# EAGLE library part DRV8836 (library Wisp5_Harvester_Motor-driver_V2)
Dual low voltage H-Bridge IC
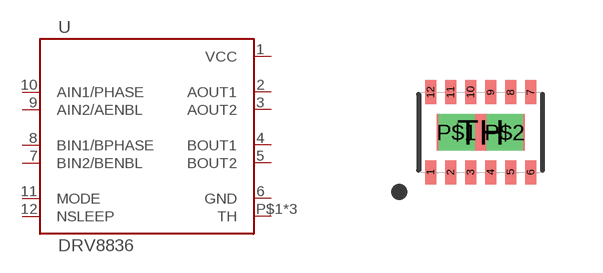
[diagram p3: symbol with the pads of 12WSON; footprint 12WSON]

Designator prefix U

## DRV8836  [12WSON]
1  VCC
2  AOUT1
3  AOUT2
4  BOUT1
5  BOUT2
6  GND
7  BIN2/BENBL
8  BIN1/BPHASE
9  AIN2/AENBL
10  AIN1/PHASE
11  MODE
12  NSLEEP
P$1  TH
P$2  TH
TH  TH

## Footprint 12WSON (pad centres in mm)
smd 0.28 x 0.6: 1 -1.25,-1; 2 -0.75,-1; 3 -0.25,-1; 4 0.25,-1; 5 0.75,-1; 6 1.25,-1; 7 1.25,1; 8 0.75,1; 9 0.25,1; 10 -0.25,1; 11 -0.75,1; 12 -1.25,1
drill 0.35 pad 0.9 square: P$1 -0.6,0; P$2 0.6,0
smd 2.2 x 0.9: TH 0,0